# EAGLE library part DPDT_SLIDE (library ELECTROMECH)
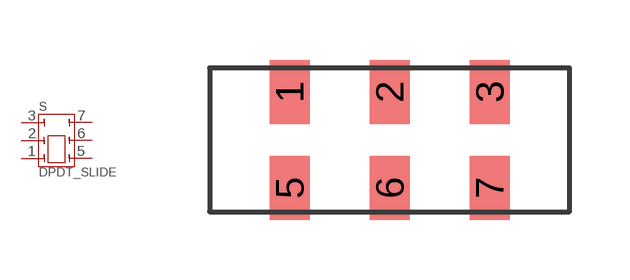
[diagram p0: symbol with the pads of JSJCQN; footprint JSJCQN]

Designator prefix S

## DPDT_SLIDEJSCQN (MPN: JS202011JCQN)  [JSJCQN]
1  1
2  2
3  3
5  5
6  6
7  7

## Footprint JSJCQN (pad centres in mm)
smd 1 x 1.6: 1 -2.5,1.2; 2 0,1.2; 3 2.5,1.2; 5 -2.5,-1.2; 6 0,-1.2; 7 2.5,-1.2